# EAGLE library part FT232RL (library dl9sec_public)
USB UART Single Chip USB - Asynchronous Serial Data Transfer VCC 4,35V..5,25V, max. 3MBaud UHCI/OHCI/EHCI-compatible Compatiblw with USB1.1 and USB2.0
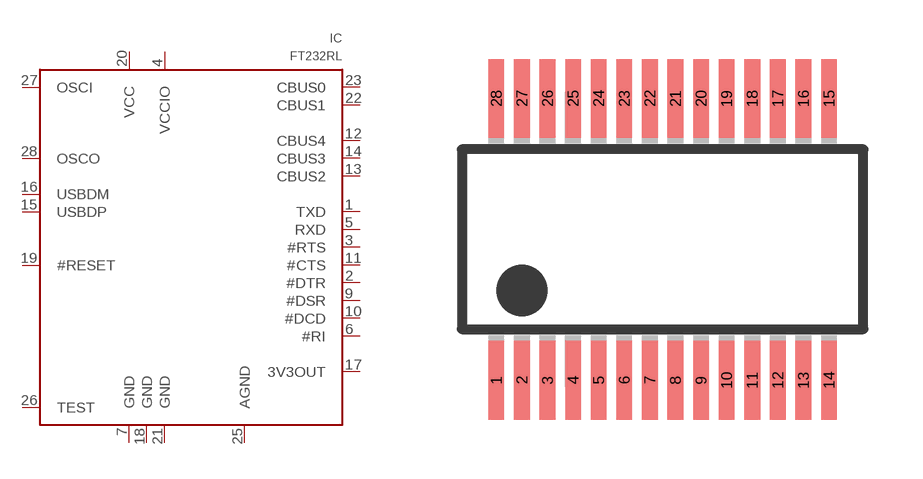
[diagram p13: symbol with the pads of SSOP28; footprint SSOP28]

Designator prefix IC

## FT232RL  [SSOP28]
1  TXD  out
2  #DTR  out
3  #RTS  out
4  VCCIO  pwr
5  RXD  in
6  #RI  in
7  GND  pwr
9  #DSR  in
10  #DCD  in
11  #CTS  in
12  CBUS4
13  CBUS2
14  CBUS3
15  USBDP
16  USBDM
17  3V3OUT  pas
18  GND  pwr
19  #RESET  in
20  VCC  pwr
21  GND  pwr
22  CBUS1
23  CBUS0
25  AGND  pwr
26  TEST  in
27  OSCI  pas
28  OSCO  pas

## Footprint SSOP28 (pad centres in mm)
SSOP28 body 5.3mm
smd 0.4 x 2: 1 -4.225,-3.575; 2 -3.575,-3.575; 3 -2.925,-3.575; 4 -2.275,-3.575; 5 -1.625,-3.575; 6 -0.975,-3.575; 7 -0.325,-3.575; 8 0.325,-3.575; 9 0.975,-3.575; 10 1.625,-3.575; 11 2.275,-3.575; 12 2.925,-3.575; 13 3.575,-3.575; 14 4.225,-3.575; 15 4.225,3.575; 16 3.575,3.575; 17 2.925,3.575; 18 2.275,3.575; 19 1.625,3.575; 20 0.975,3.575; 21 0.325,3.575; 22 -0.325,3.575; 23 -0.975,3.575; 24 -1.625,3.575; 25 -2.275,3.575; 26 -2.925,3.575; 27 -3.575,3.575; 28 -4.225,3.575